# EAGLE library part CS47048C-CQZ (library cirrus)
Audio SOC 32-bit Audio DSP Family LQFP100
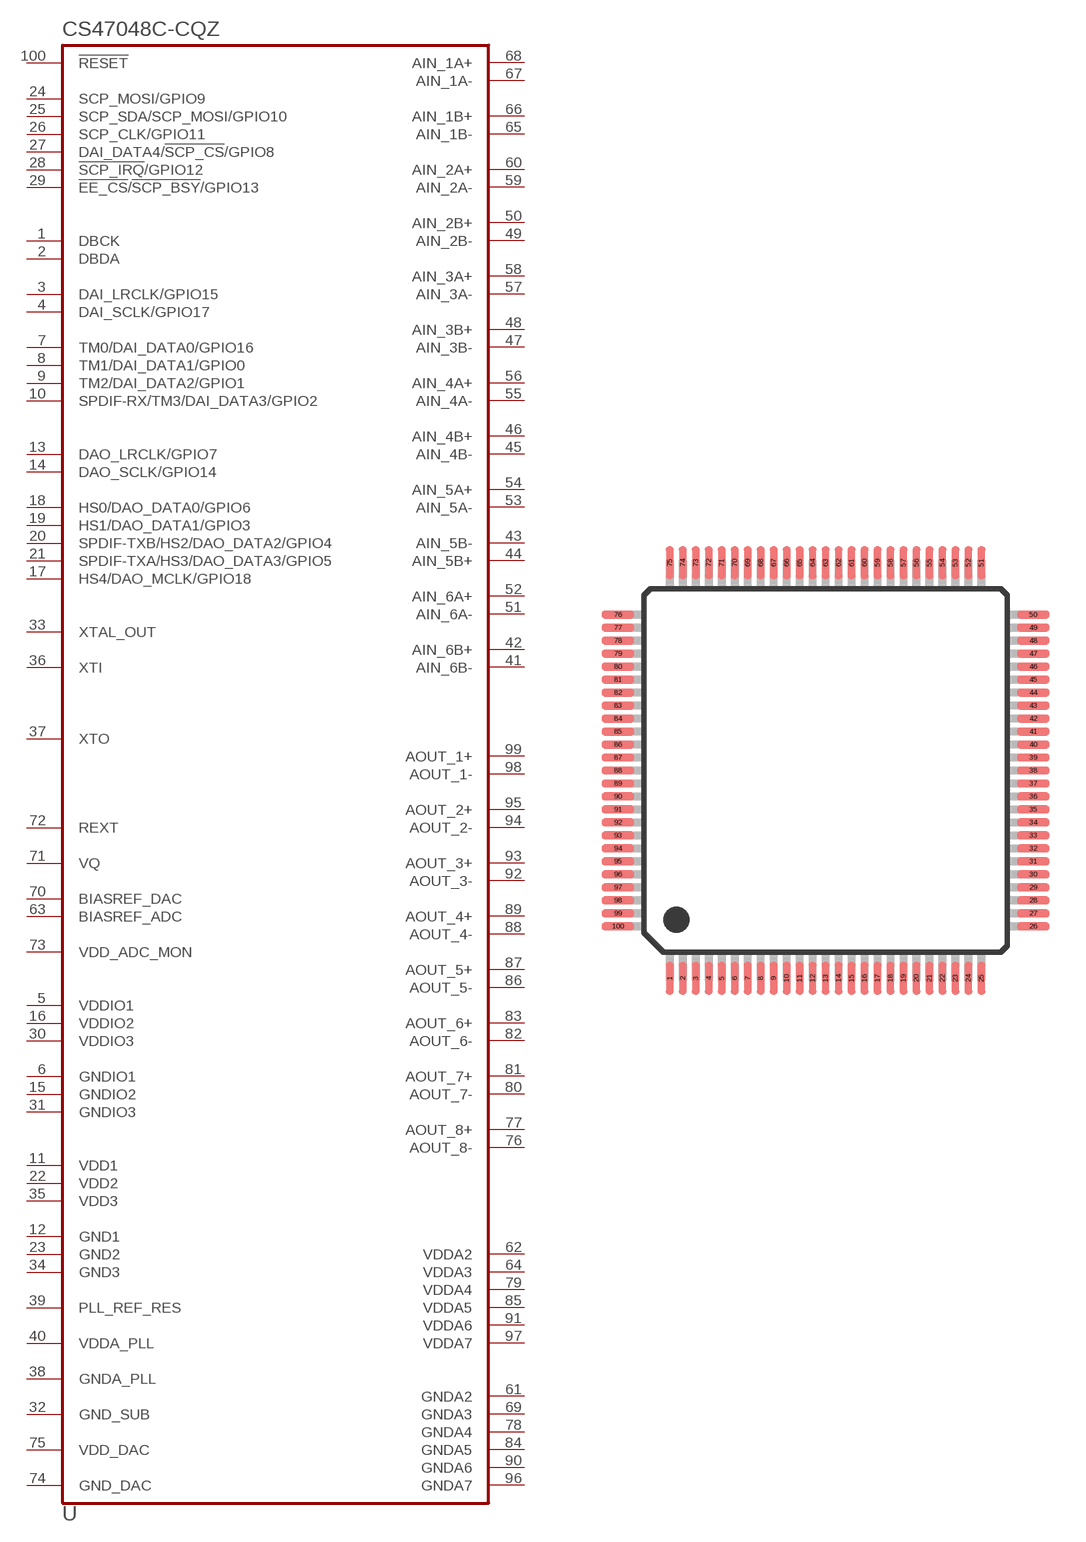
[diagram p15: symbol with the pads of LQFP100-EP; footprint LQFP100-EP]

Designator prefix U

## CS47048C-CQZ  [LQFP100-EP]
1  DBCK
2  DBDA
3  DAI_LRCLK/GPIO15
4  DAI_SCLK/GPIO17
5  VDDIO1  pwr
6  GNDIO1  pwr
7  TM0/DAI_DATA0/GPIO16
8  TM1/DAI_DATA1/GPIO0
9  TM2/DAI_DATA2/GPIO1
10  SPDIF-RX/TM3/DAI_DATA3/GPIO2
11  VDD1  pwr
12  GND1  pwr
13  DAO_LRCLK/GPIO7
14  DAO_SCLK/GPIO14
15  GNDIO2  pwr
16  VDDIO2  pwr
17  HS4/DAO_MCLK/GPIO18
18  HS0/DAO_DATA0/GPIO6
19  HS1/DAO_DATA1/GPIO3
20  SPDIF-TXB/HS2/DAO_DATA2/GPIO4
21  SPDIF-TXA/HS3/DAO_DATA3/GPIO5
22  VDD2  pwr
23  GND2  pwr
24  SCP_MOSI/GPIO9
25  SCP_SDA/SCP_MOSI/GPIO10
26  SCP_CLK/GPIO11
27  DAI_DATA4/!SCP_CS!/GPIO8
28  !SCP_IRQ!/GPIO12
29  !EE_CS!/!SCP_BSY!/GPIO13
30  VDDIO3  pwr
31  GNDIO3  pwr
32  GND_SUB  pwr
33  XTAL_OUT
34  GND3  pwr
35  VDD3  pwr
36  XTI  in
37  XTO
38  GNDA_PLL  pwr
39  PLL_REF_RES
40  VDDA_PLL  pwr
41  AIN_6B-  in
42  AIN_6B+  in
43  AIN_5B-  in
44  AIN_5B+  in
45  AIN_4B-  in
46  AIN_4B+  in
47  AIN_3B-  in
48  AIN_3B+  in
49  AIN_2B-  in
50  AIN_2B+  in
51  AIN_6A-  in
52  AIN_6A+  in
53  AIN_5A-  in
54  AIN_5A+  in
55  AIN_4A-  in
56  AIN_4A+  in
57  AIN_3A-  in
58  AIN_3A+  in
59  AIN_2A-  in
60  AIN_2A+  in
61  GNDA2  pwr
62  VDDA2  pwr
63  BIASREF_ADC
64  VDDA3  pwr
65  AIN_1B-  in
66  AIN_1B+  in
67  AIN_1A-  in
68  AIN_1A+  in
69  GNDA3  pwr
70  BIASREF_DAC
71  VQ
72  REXT
73  VDD_ADC_MON
74  GND_DAC  pwr
75  VDD_DAC  pwr
76  AOUT_8-  out
77  AOUT_8+  out
78  GNDA4  pwr
79  VDDA4  pwr
80  AOUT_7-  out
81  AOUT_7+  out
82  AOUT_6-  out
83  AOUT_6+  out
84  GNDA5  pwr
85  VDDA5  pwr
86  AOUT_5-  out
87  AOUT_5+  out
88  AOUT_4-  out
89  AOUT_4+  out
90  GNDA6  pwr
91  VDDA6  pwr
92  AOUT_3-  out
93  AOUT_3+  out
94  AOUT_2-  out
95  AOUT_2+  out
96  GNDA7  pwr
97  VDDA7  pwr
98  AOUT_1-  out
99  AOUT_1+  out
100  !RESET  in

## Footprint LQFP100-EP (pad centres in mm)
Low-profile Quad Flat Package (Exposed Pad)
smd 0.3 x 1.25: 1 -6,-8; 2 -5.5,-8; 3 -5,-8; 4 -4.5,-8; 5 -4,-8; 6 -3.5,-8; 7 -3,-8; 8 -2.5,-8; 9 -2,-8; 10 -1.5,-8; 11 -1,-8; 12 -0.5,-8; 13 0,-8; 14 0.5,-8; 15 1,-8; 16 1.5,-8; 17 2,-8; 18 2.5,-8; 19 3,-8; 20 3.5,-8; 21 4,-8; 22 4.5,-8; 23 5,-8; 24 5.5,-8; 25 6,-8; 51 6,8; 52 5.5,8; 53 5,8; 54 4.5,8; 55 4,8; 56 3.5,8; 57 3,8; 58 2.5,8; 59 2,8; 60 1.5,8; 61 1,8; 62 0.5,8; 63 0,8; 64 -0.5,8; 65 -1,8; 66 -1.5,8; 67 -2,8; 68 -2.5,8; 69 -3,8; 70 -3.5,8; 71 -4,8; 72 -4.5,8; 73 -5,8; 74 -5.5,8; 75 -6,8
smd 1.25 x 0.3: 26 8,-6; 27 8,-5.5; 28 8,-5; 29 8,-4.5; 30 8,-4; 31 8,-3.5; 32 8,-3; 33 8,-2.5; 34 8,-2; 35 8,-1.5; 36 8,-1; 37 8,-0.5; 38 8,0; 39 8,0.5; 40 8,1; 41 8,1.5; 42 8,2; 43 8,2.5; 44 8,3; 45 8,3.5; 46 8,4; 47 8,4.5; 48 8,5; 49 8,5.5; 50 8,6; 76 -8,6; 77 -8,5.5; 78 -8,5; 79 -8,4.5; 80 -8,4; 81 -8,3.5; 82 -8,3; 83 -8,2.5; 84 -8,2; 85 -8,1.5; 86 -8,1; 87 -8,0.5; 88 -8,0; 89 -8,-0.5; 90 -8,-1; 91 -8,-1.5; 92 -8,-2; 93 -8,-2.5; 94 -8,-3; 95 -8,-3.5; 96 -8,-4; 97 -8,-4.5; 98 -8,-5; 99 -8,-5.5; 100 -8,-6